# EAGLE library part LAPMODHEADER (library PAS)
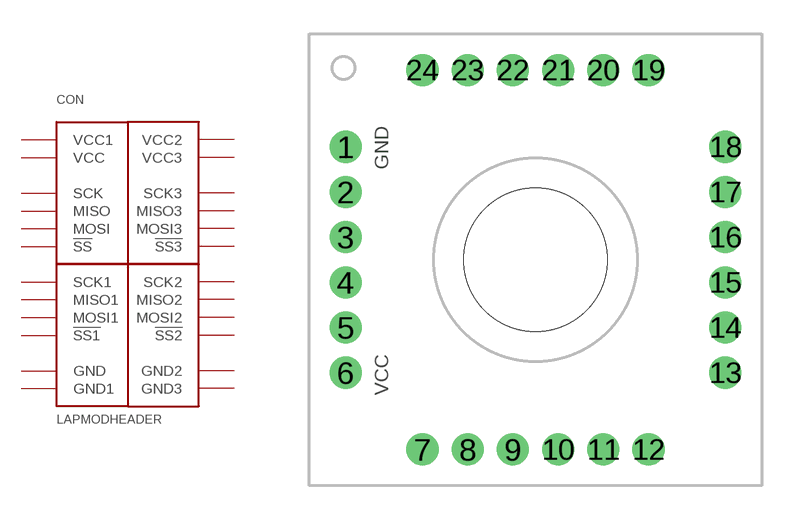
[diagram p7: symbol with the pads of LAPMODCON; footprint LAPMODCON]

Designator prefix CON

## LAPMODHEADER  [LAPMODCON]
1  GND  pas
2  SCK  pas
3  MISO  pas
4  MOSI  pas
5  !SS  pas
6  VCC  pas
7  GND1  pas
8  SCK1  pas
9  MISO1  pas
10  MOSI1  pas
11  !SS1  pas
12  VCC1  pas
13  GND2  pas
14  SCK2  pas
15  MISO2  pas
16  MOSI2  pas
17  !SS2  pas
18  VCC2  pas
19  GND3  pas
20  SCK3  pas
21  MISO3  pas
22  MOSI3  pas
23  !SS3  pas
24  VCC3  pas

## Footprint LAPMODCON (pad centres in mm)
Laparaoscopic module connector
drill 0.8 pad 1.422 round: 1 -8.4,5; 2 -8.4,3; 3 -8.4,1; 4 -8.4,-1; 5 -8.4,-3; 6 -8.4,-5; 7 -5,-8.4; 8 -3,-8.4; 9 -1,-8.4; 10 1,-8.4; 11 3,-8.4; 12 5,-8.4; 13 8.4,-5; 14 8.4,-3; 15 8.4,-1; 16 8.4,1; 17 8.4,3; 18 8.4,5; 19 5,8.4; 20 3,8.4; 21 1,8.4; 22 -1,8.4; 23 -3,8.4; 24 -5,8.4
hole 6.35 at 0,0